# Altium schematic symbol library con-jae.SCHLIB: 3 symbols
Pins are listed as number, name and electrical type; pins without a type are passive.

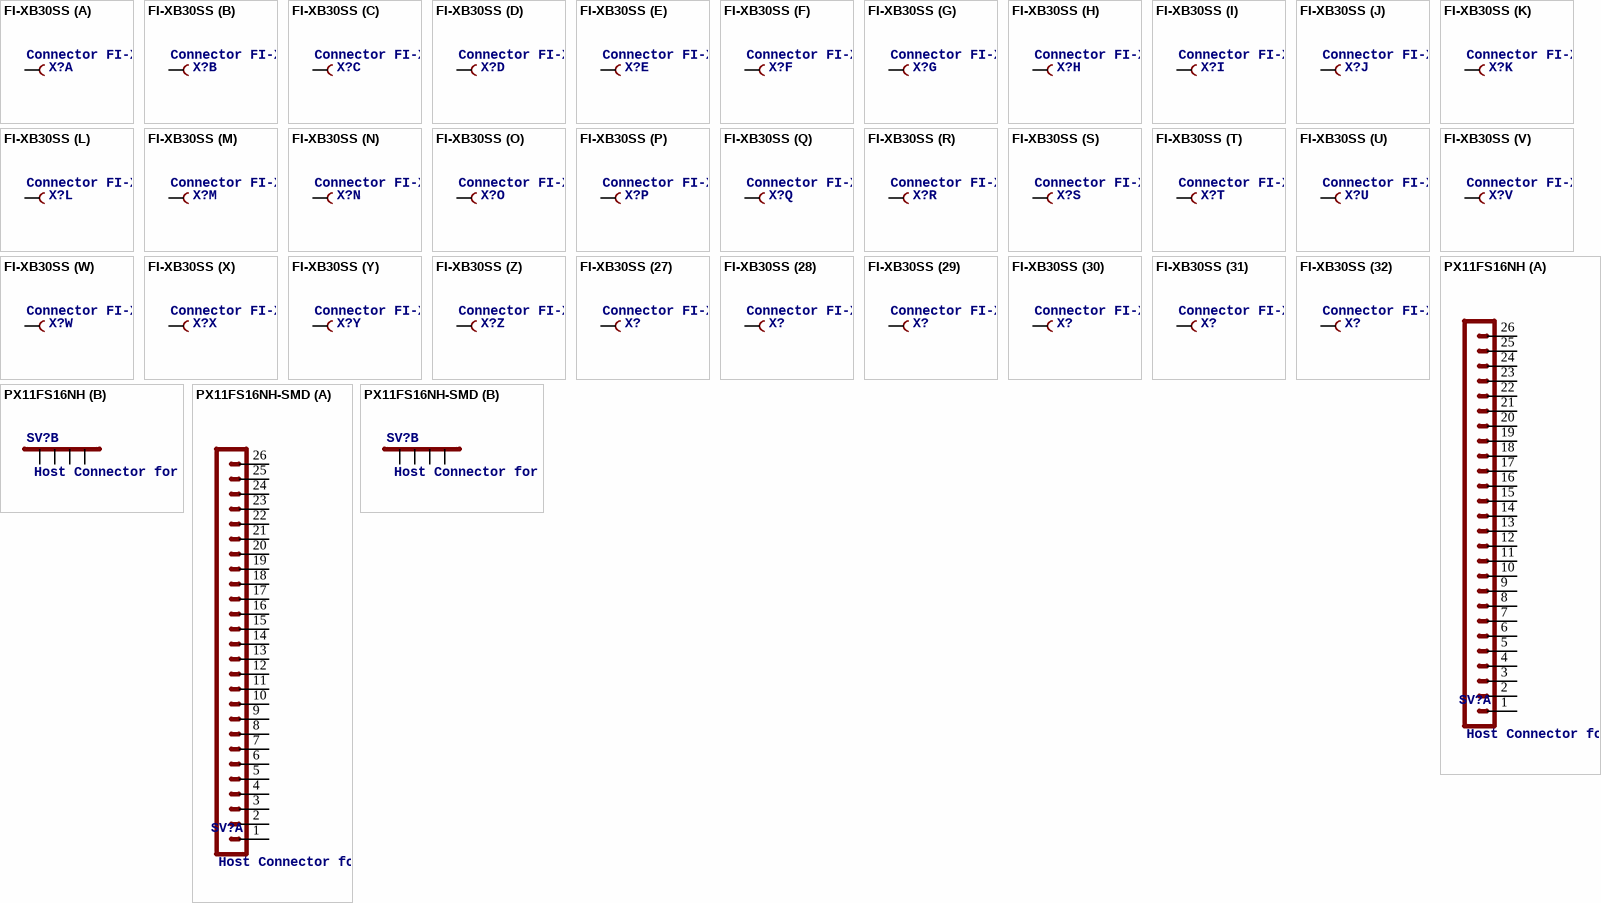
[diagram p0: symbols FI-XB30SS to PX11FS16NH-SMD]

## FI-XB30SS
designator X?, comment Connector FI-XB30SSL-HF15   Source: http://jae-connector.com/en/pdf/SJ038317.pdf
OC_FARNELL: unknown; OC_NEWARK: unknown
footprint FI-XB30SSL-15
part A pins: 1 F
part B pins: 2 F
part C pins: 3 F
part D pins: 4 F
part E pins: 5 F
part F pins: 6 F
part G pins: 7 F
part H pins: 8 F
part I pins: 9 F
part J pins: 10 F
part K pins: 11 F
part L pins: 12 F
part M pins: 13 F
part N pins: 14 F
part O pins: 15 F
part P pins: 16 F
part Q pins: 17 F
part R pins: 18 F
part S pins: 19 F
part T pins: 20 F
part U pins: 21 F
part V pins: 22 F
part W pins: 23 F
part X pins: 24 F
part Y pins: 25 F
part Z pins: 26 F
part 27 pins: 27 F
part 28 pins: 28 F
part 29 pins: 29 F
part 30 pins: 30 F
part 31 pins: 31 F
part 32 pins: 32 F

## PX11FS16NH
designator SV?, comment Host Connector for PCMCIA Express Card 34mm MB-0127-2   Express Card Host Connector, JAE PX10BSB16 (SV 26-pol.)+  Express Card Host Connector Cage, JAE PX11FS16NH (Käfig für 34mm-Karten mit 4 Befestigungs- bzw. PE-Anschlusspunkten)    Source: http://www.jae-connector.com/en/pdf/MB-0127-2E_PX10-11.pdf / PX11FS16NH SJ102129.pdf
OC_FARNELL: unknown; OC_NEWARK: unknown
footprint EXPRCRD-PX10-PX11_2
part A pins: 1, 2, 3, 4, 5, 6, 7, 8, 9, 10, 11, 12, 13, 14, 15, 16, 17, 18, 19, 20, 21, 22, 23, 24, 25, 26
part B pins: G1, G2, G3, G4

## PX11FS16NH-SMD
designator SV?, comment Host Connector for PCMCIA Express Card 34mm MB-0127-2   Express Card Host Connector, JAE PX10BSB16 (SV 26-pol.)+  Express Card Host Connector Cage, JAE PX11FS16NH (Käfig für 34mm-Karten mit 4 Befestigungs- bzw. PE-Anschlusspunkten)    Source: http://www.jae-connector.com/en/pdf/MB-0127-2E_PX10-11.pdf / PX11FS16NH SJ102129.pdf
OC_FARNELL: unknown; OC_NEWARK: unknown
footprint EXPRCRD-PX10-PX11
part A pins: 1, 2, 3, 4, 5, 6, 7, 8, 9, 10, 11, 12, 13, 14, 15, 16, 17, 18, 19, 20, 21, 22, 23, 24, 25, 26
part B pins: G1, G2, G3, G4